# EAGLE library part OPAMP_ADA4691-4 (library balanced_detector_pcb)
Low Power, 3.6 MHz, Low Noise, Rail-toRail Output, Operational Amplifiers
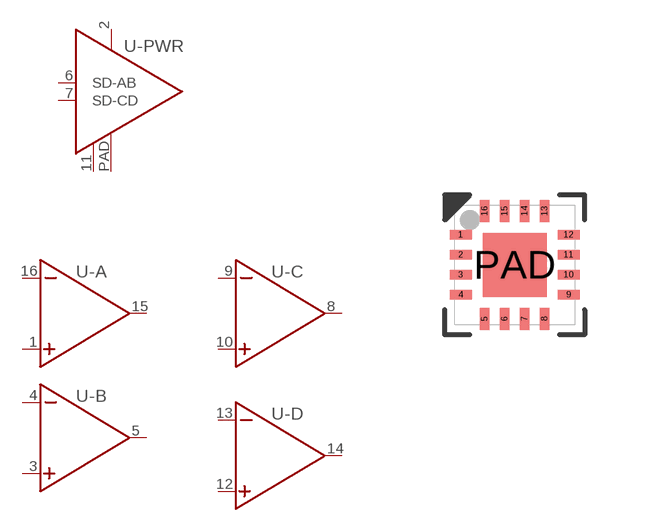
[diagram p3: symbol with the pads of LFCSP_16; footprint LFCSP_16]

Designator prefix U; gates -A=OPAMP -B=OPAMP -C=OPAMP -D=OPAMP -PWR=OPAMP-PWR2

## OPAMP_ADA4691-4 (MFG: ANALOG DEVICES; MPN: ADA4691-4ACPZ; PRICE: 4.08; VENDOR: DIGIKEY; VPN: ADA4691-4ACPZ-RLCT-ND)  [LFCSP_16]
1  -A:+IN  pas
2  -PWR:V+  pas
3  -B:+IN  pas
4  -B:-IN  pas
5  -B:OUT  pas
6  -PWR:SD-AB  pas
7  -PWR:SD-CD  pas
8  -C:OUT  pas
9  -C:-IN  pas
10  -C:+IN  pas
11  -PWR:V-  pas
12  -D:+IN  pas
13  -D:-IN  pas
14  -D:OUT  pas
15  -A:OUT  pas
16  -A:-IN  pas
PAD  -PWR:PAD  pas

## Footprint LFCSP_16 (pad centres in mm)
smd 0.55 x 0.23: 1 -1.35,0.75; 2 -1.35,0.25; 3 -1.35,-0.25; 4 -1.35,-0.75; 9 1.35,-0.75; 10 1.35,-0.25; 11 1.35,0.25; 12 1.35,0.75
smd 0.23 x 0.55: 5 -0.75,-1.35; 6 -0.25,-1.35; 7 0.25,-1.35; 8 0.75,-1.35; 13 0.75,1.35; 14 0.25,1.35; 15 -0.25,1.35; 16 -0.75,1.35
smd 1.6 x 1.6: PAD 0,0